# Altium footprint library SD-104031-001.PcbLib: 1 footprints
Each footprint in its own frame and in the unit in brackets; x right, y up, seen from the top. Pads: shape width x height; smd on the part's side, far side on the other; paste and mask are expansions set on the pad; w line width, h text height; cw(c..) or ccw(c..) is an arc to the next point about the centre after c.
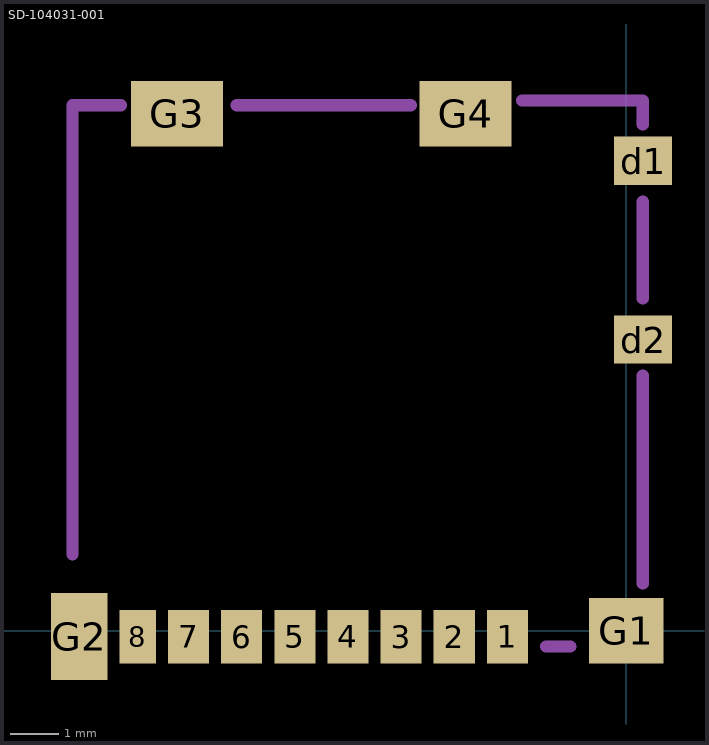
[diagram p0: the footprint, top view; thin cyan lines are the x and y axes]

## SD-104031-001 [mm]
pads (14):
  rect 0.85x1.1 smd: 1(-2.46,-0.125) 2(-3.56,-0.125) 3(-4.66,-0.125) 4(-5.76,-0.125) 5(-6.86,-0.125) 6(-7.96,-0.125) 7(-9.06,-0.125)
  rect 0.75x1.1 smd: 8(-10.11,-0.125)
  rect 1.2x1 smd: d1(0.35,9.725) d2(0.35,6.025)
  rect 1.55x1.35 smd: G1(0,0)
  rect 1.17x1.8 smd: G2(-11.32,-0.125)
  rect 1.9x1.35 smd: G3(-9.295,10.7) G4(-3.325,10.7)
Mechanical 13:
  lines w0.254: -11.46,1.575 -11.46,10.875 -10.46,10.875 ; -8.06,10.875 -4.46,10.875 ; -2.16,10.975 0.34,10.975 0.34,10.475 ; -1.66,-0.325 -1.16,-0.325 ; 0.34,0.975 0.34,5.275 ; 0.34,6.875 0.34,8.875